# EAGLE library part 555TIMERSOC (library mECustom)
555 Timer 8 PIN DIL Socket Package
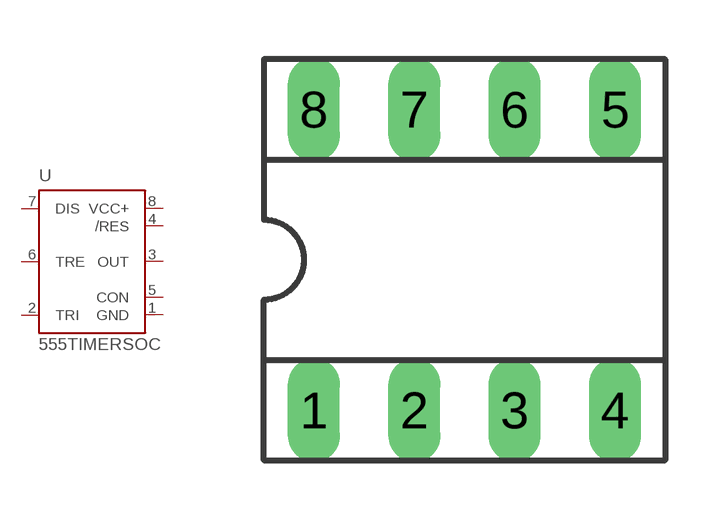
[diagram p11: symbol with the pads of SOCKET08; footprint SOCKET08]

Designator prefix -

## 555TIMERSOC  [SOCKET08]
1  GND  pwr
2  TRI  in
3  OUT  out
4  /RES  in
5  CON  in
6  TRE  in
7  DIS  in
8  VCC+  pwr

## Footprint SOCKET08 (pad centres in mm)
drill 0.813 long: 1 -3.81,-3.81; 2 -1.27,-3.81; 3 1.27,-3.81; 4 3.81,-3.81; 5 3.81,3.81; 6 1.27,3.81; 7 -1.27,3.81; 8 -3.81,3.81